# EAGLE library part NIXIE_IN-14 (library in-14_nixie)
IN-14/IN-16
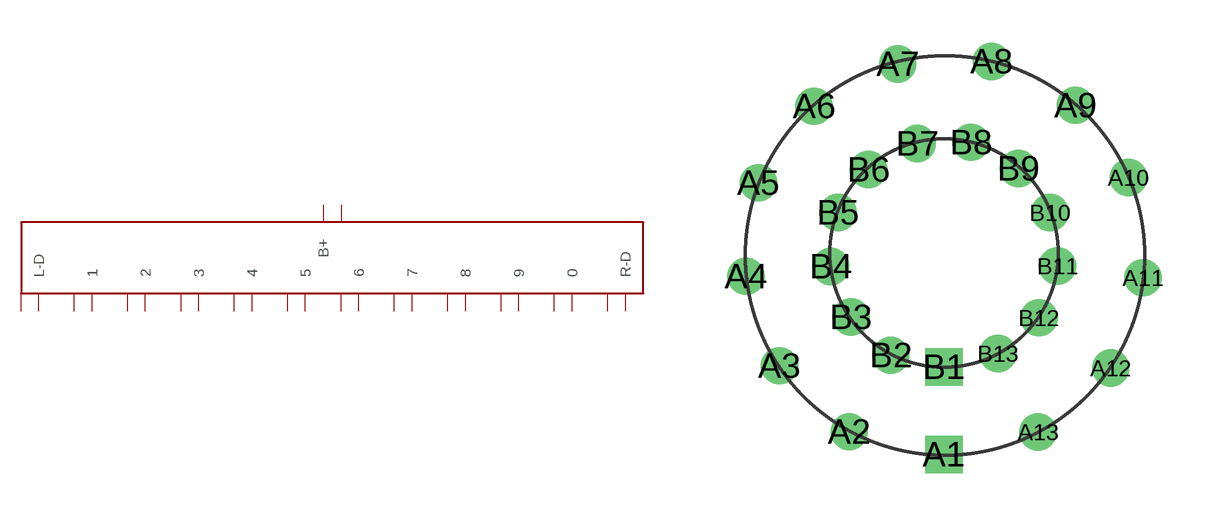
[diagram p0: symbol with the pads of NIXIE_IN-14/IN-16; footprint NIXIE_IN-14/IN-16]

Designator prefix -

## NIXIE_IN-14"  [NIXIE_IN-14/IN-16]
A1  B+
A2  L-D
A3  1
A4  2
A5  3
A6  4
A7  5
A8  6
A9  7
A10  8
A11  9
A12  0
A13  R-D
B1  B+-B
B2  1-B
B3  7-B
B4  3-B
B5  L-D-B
B6  4-B
B7  5-B
B8  6-B
B9  2-B
B10  R-D-B
B11  8-B
B12  9-B
B13  0-B

## Footprint NIXIE_IN-14/IN-16 (pad centres in mm)
drill 0.8 square: A1 0,-7.07; B1 0,-4
drill 0.8 round: A2 -3.326,-6.272; A3 -5.773,-3.959; A4 -6.949,-0.82; A5 -6.511,2.46; A6 -4.556,5.15; A7 -1.621,6.63; A8 1.67,6.72; A9 4.617,5.18; A10 6.47,2.644; A11 6.987,-0.871; A12 5.854,-4.039; A13 3.304,-6.284; B2 -1.865,-3.587; B3 -3.265,-2.249; B4 -3.973,-0.473; B5 -3.717,1.419; B6 -2.648,2.924; B7 -0.937,3.838; B8 0.951,3.882; B9 2.613,2.963; B10 3.72,1.414; B11 3.985,-0.459; B12 3.33,-2.277; B13 1.891,-3.532